# EAGLE library part 00SPEEDY_EE16/7/5_THT_V_10PIN (library Wurth Electronics Midcom Inc V1-0)
Package Style: Speedy EE16/7/5 Mounting: THT Pins: 12 pins Bobbin: 070-5278 Best pinouts for production vary per application. Please contact Wurth Electronics Midcom, Inc. for assistance with your custom design. Website: Wurth Electronics Midcom <http://www.we-online.com/midcom> Contact us Wurth Electronics Midcom, Inc. 121 Airport Dr. Watertown, SD 57201 Phone: (605) 886-4385 Fax: (605) 886-4486 E-Mail: midcom@we-online.com
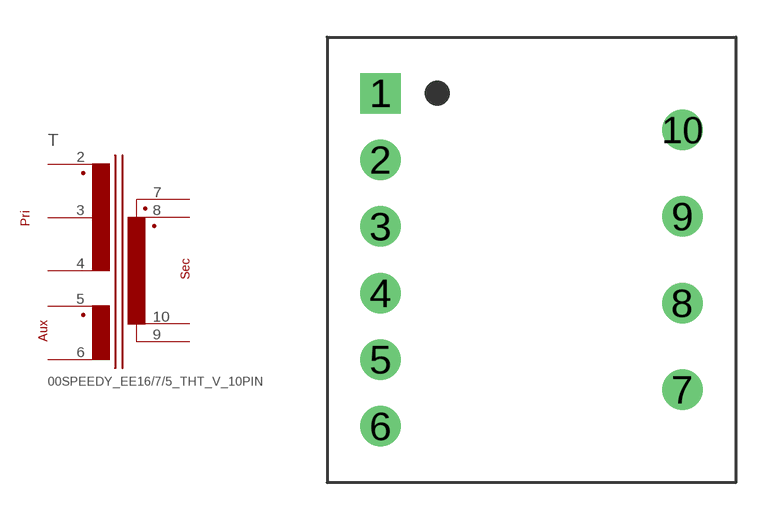
[diagram p103: symbol with the pads of 00SPEEDY_EE16/7/5_THT_V_10PIN; footprint 00SPEEDY_EE16/7/5_THT_V_10PIN]

Designator prefix T

## 00SPEEDY_EE16/7/5_THT_V_10PIN  [00SPEEDY_EE16/7/5_THT_V_10PIN]
2  1  pas
3  2  pas
4  3  pas
5  4  pas
6  5  pas
7  7  pas
8  8  pas
9  6  pas
10  9  pas

## Footprint 00SPEEDY_EE16/7/5_THT_V_10PIN (pad centres in mm)
Package Style: Speedy EE16/7/5 Mounting: THT Pins: 12 pins Bobbin: 070-5278
drill 1.092 square: 1 -6.096,6.731
drill 1.092 round: 2 -6.096,4.039; 3 -6.096,1.346; 4 -6.096,-1.346; 5 -6.096,-4.039; 6 -6.096,-6.731; 7 6.096,-5.258; 8 6.096,-1.753; 9 6.096,1.753; 10 6.096,5.258